# Altium schematic symbol library S4B-PH-SM4-TBLFSN.SchLib: 1 symbol
Pins are listed as number, name and electrical type; pins without a type are passive.

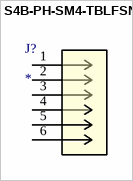
[diagram p0: symbol S4B-PH-SM4-TBLFSN]

## S4B-PH-SM4-TBLFSN
designator J?
No Description Available; Mfr_Name: JST; RefDes: RefDes; Type: Type
footprint CONN_S4B-PH-SM4-TBLFSN_JST
pins: 1, 2, 3, 4, 5, 6